# Altium footprint library SSQ-106-02-T-S-RA.PcbLib: 1 footprints
Each footprint in its own frame and in the unit in brackets; x right, y up, seen from the top. Pads: shape width x height; smd on the part's side, far side on the other; paste and mask are expansions set on the pad; w line width, h text height; cw(c..) or ccw(c..) is an arc to the next point about the centre after c.
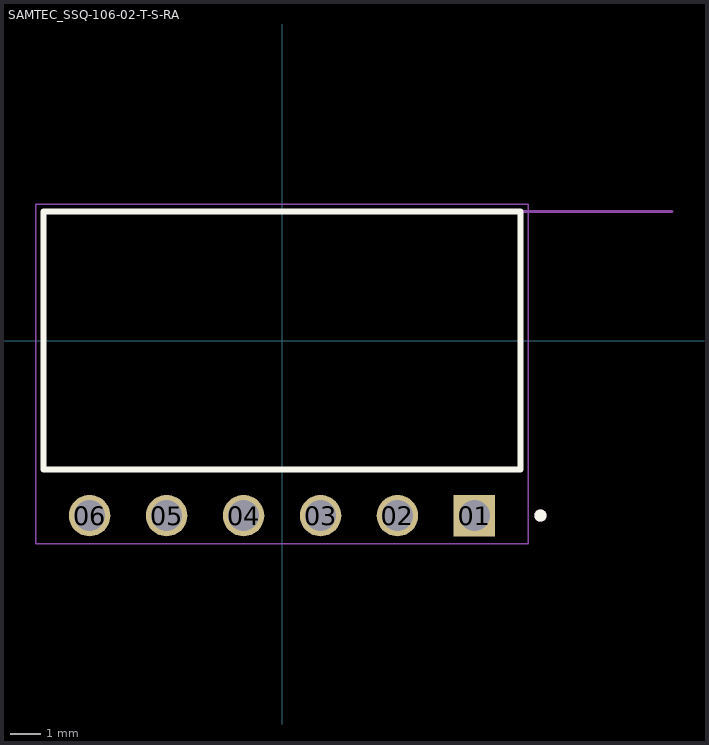
[diagram p0: the footprint, top view; thin cyan lines are the x and y axes]

## SAMTEC_SSQ-106-02-T-S-RA [mm]
pads (6):
  rect 1.37x1.37 hole 1.02: 01(6.35,-5.775)
  round 1.37 hole 1.02: 02(3.81,-5.775) 03(1.27,-5.775) 04(-1.27,-5.775) 05(-3.81,-5.775) 06(-6.35,-5.775)
Top Overlay:
  circle w0.2: c8.525,-5.775 r0.1
  lines w0.2: -7.875,-4.255 7.875,-4.255 7.875,4.255 -7.875,4.255 -7.875,-4.255
Mechanical 13:
  circle w0.2: c8.525,-5.775 r0.1
  lines w0.1: 12.875,4.255 7.875,4.255 ; -7.875,-4.255 -7.875,4.255 ; -7.875,-4.255 7.875,-4.255 ; -7.875,-4.255 -7.875,4.255 ; -7.875,4.255 7.875,4.255 ; -7.875,4.255 7.875,4.255 ; 7.875,-4.255 7.875,4.255 ; 7.875,-4.255 7.875,4.255
  text "PCB Edge" at 8.375,4.755 h1
Mechanical 15:
  lines w0.05: -8.125,-6.71 8.125,-6.71 8.125,4.505 -8.125,4.505 -8.125,-6.71